# Altium footprint library Manea_ThCAD_PROIECT_PCB1.PcbLib: 15 footprints
Each footprint in its own frame and in the unit in brackets; x right, y up, seen from the top. Pads: shape width x height; smd on the part's side, far side on the other; paste and mask are expansions set on the pad; w line width, h text height; cw(c..) or ccw(c..) is an arc to the next point about the centre after c.
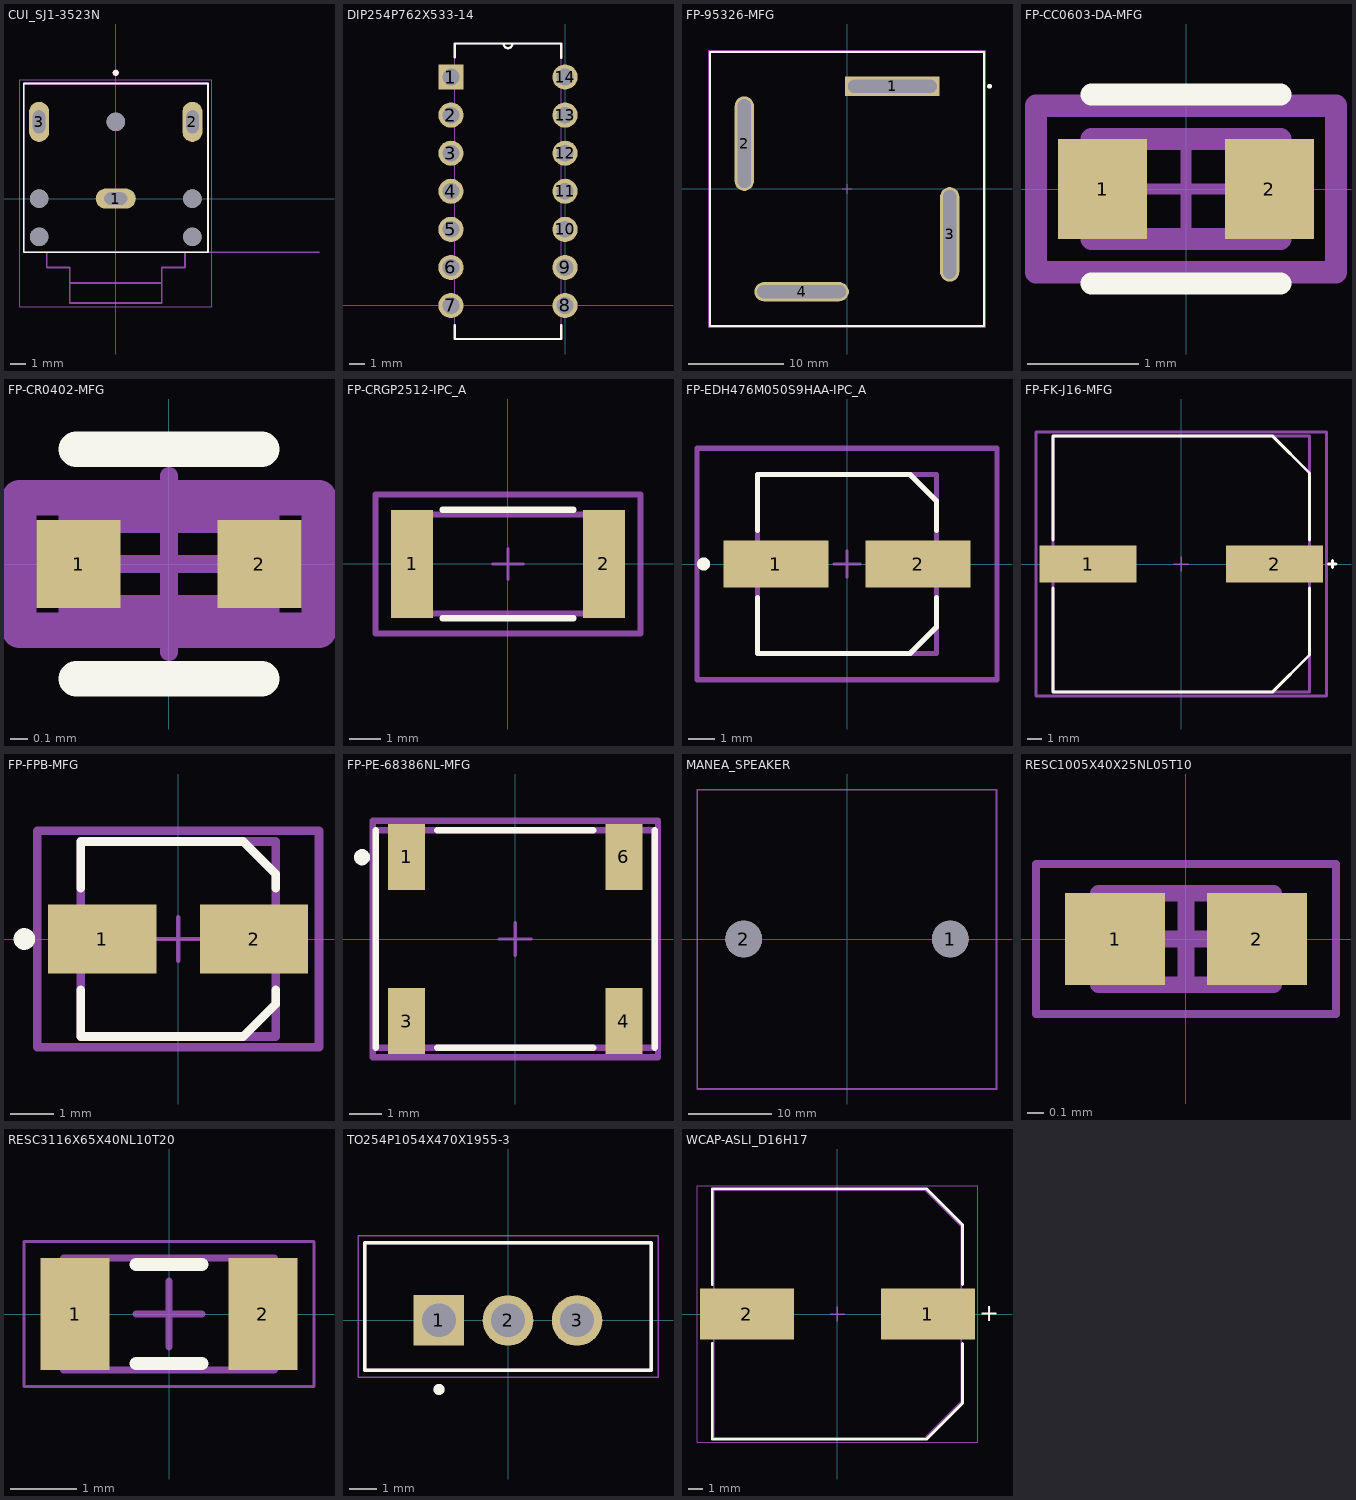
[diagram p0: the footprints below, top view; thin cyan lines are the x and y axes]

## CUI_SJ1-3523N [mm] "Manea - Stereo jack"
height 6.25
pads (8):
  oval 2.616x1.308 hole 0.8 slot 1.5 at 0 deg: 1(0,0)
  oval 1.308x2.616 hole 0.8 slot 1.5 at 90 deg: 2(5,5) 3(-5,5)
  round 1.2 hole 1.2 unplated: ""(-5,-2.5) ""(-5,0) ""(0,5) ""(5,-2.5) ""(5,0)
Top Overlay:
  circle w0.2: c0,8.2 r0.1
  lines w0.127: -6,-3.5 6,-3.5 6,7.5 -6,7.5 -6,-3.5
Top 3D Body:
  circle w0.2: c0,8.2 r0.1
  lines w0.127: 13.25,-3.5 6,-3.5 ; -4.5,-3.5 -4.5,-4.5 -3,-4.5 -3,-5.5 ; -4.5,-3.5 4.5,-3.5 ; -4.5,-3.5 -6,-3.5 -6,7.5 6,7.5 6,-3.5 ; -3,-5.5 3,-5.5 ; -3,-5.5 -3,-6.8 3,-6.8 3,-5.5 ; 3,-5.5 3,-4.5 4.5,-4.5 4.5,-3.5 ; 4.5,-3.5 6,-3.5
  text "PCB EDGE" at 7,-3.25 h0.81
Top Courtyard:
  lines w0.05: -6.25,-7.05 -6.25,7.75 6.25,7.75 6.25,-7.05 -6.25,-7.05
3D body "step_temp.STEP": height 3.01, standoff -5.5, extent -6,-6.807 6,7.493

## DIP254P762X533-14 [mil] "Manea - IC LM1877N"
pads (14):
  rect 66x66 / inner round 66 / far side rect 66x66 hole 44: 1(-300,600)
  round 66 hole 44: 2(-300,500) 3(-300,400) 4(-300,300) 5(-300,200) 6(-300,100) 7(-300,0) 8(0,0) 9(0,100) 10(0,200) 11(0,300) 12(0,400) 13(0,500) 14(0,600)
Top Overlay:
  lines w6: -290,-51 -290,-88 -10,-88 -10,-51 ; -290,652 -290,688 -162,688 ; -10,651 -10,688 -138,688 ; -162,688 ccw(c-150,688) -138,688 ; -162,688 -138,688
Top 3D Body:
  lines w0: -162,688 ccw(c-150,688) -138,688 ; -162,688 -138,688 ; -162,688 -290,688 -290,-88 -10,-88 -10,688 -138,688 ; -322,-22 -322,22 -290,22 -290,-22 -322,-22 ; -322,78 -322,122 -290,122 -290,78 -322,78 ; -322,178 -322,222 -290,222 -290,178 -322,178 ; -322,278 -322,322 -290,322 -290,278 -322,278 ; -322,378 -322,422 -290,422 -290,378 -322,378 ; -322,478 -322,522 -290,522 -290,478 -322,478 ; -322,578 -322,622 -290,622 -290,578 -322,578 ; -10,-22 -10,22 22,22 22,-22 -10,-22 ; -10,78 -10,122 22,122 22,78 -10,78 ; -10,178 -10,222 22,222 22,178 -10,178 ; -10,278 -10,322 22,322 22,278 -10,278 ; -10,378 -10,422 22,422 22,378 -10,378 ; -10,478 -10,522 22,522 22,478 -10,478 ; -10,578 -10,622 22,622 22,578 -10,578
3D body "step_temp.STEP": height 200, standoff -125.2, extent -304.92,-80.04 4.92,680

## FP-95326-MFG [mm] "Manea - Bridge Diode"
pads (4):
  rect 9.9x2 hole 1.4 slot 9.3 at 0 deg paste-2539.97 mask+0: 1(4.75,10.75)
  rrect100% 2x9.9 hole 1.4 slot 9.3 at 90 deg paste-2539.97 mask+0: 2(-10.75,4.75) 3(10.75,-4.75)
  rrect100% 9.9x2 hole 1.4 slot 9.3 at 0 deg paste-2539.97 mask+0: 4(-4.75,-10.75)
Top Overlay:
  circle w0.25: c14.925,10.75 r0.125
  lines w0.2: -14.325,-14.325 14.325,-14.325 14.325,14.325 -14.325,14.325 -14.325,-14.325
Top Assembly:
  lines w0.2: -14.425,-14.425 14.425,-14.425 14.425,14.425 -14.425,14.425 -14.425,-14.425
  text ".Designator" at 0,0.187 h1
Top 3D Body:
  lines w0.2: -14.325,-14.325 14.325,-14.325 14.325,14.325 -14.325,14.325 -14.325,-14.325
Top Courtyard:
  lines w0.2: -14.425,-14.425 14.425,-14.425 14.425,14.425 -14.425,14.425 -14.425,-14.425
Top Component Center:
  lines w0.1: -0.5,0 0.5,0 ; 0,-0.5 0,0.5
3D body "Diode_Vishay_VS-26MB40A_eec.STEP": height 0.25, standoff 0, extent -14.425,-14.425 14.425,14.425

## FP-CC0603-DA-MFG [mm] "Manea - Cap 100nF Ceramic"
pads (2):
  rect 0.8x0.9 smd paste+0 mask+0.102: 1(-0.75,0) 2(0.75,0)
Top Overlay:
  lines w0.2: -0.85,-0.85 0.85,-0.85 ; -0.85,0.85 0.85,0.85
Top Assembly:
  lines w0.2: -1.35,-0.75 1.35,-0.75 1.35,0.75 -1.35,0.75 -1.35,-0.75
  text ".Designator" at 0,0.187 h1
Top 3D Body:
  lines w0.2: -0.85,-0.45 0.85,-0.45 0.85,0.45 -0.85,0.45 -0.85,-0.45
Top Courtyard:
  lines w0.2: -1.35,-0.75 1.35,-0.75 1.35,0.75 -1.35,0.75 -1.35,-0.75
Top Component Center:
  lines w0.1: -0.5,0 0.5,0 ; 0,-0.5 0,0.5
3D body "Cap_YAGEO_CC0603KRX7R9BB271_eec.STEP": height 0.25, standoff 0, extent -1.35,-0.75 1.35,0.75

## FP-CR0402-MFG [mm] "Manea Resis - 2.7Ω (mid - short)"
pads (2):
  rect 0.475x0.5 smd paste+0 mask+0: 1(-0.513,0) 2(0.513,0)
Top Overlay:
  lines w0.2: -0.525,-0.65 0.525,-0.65 ; -0.525,0.65 0.525,0.65
Top Assembly:
  lines w0.2: -0.85,-0.375 -0.85,0.375 0.85,0.375 0.85,-0.375 -0.85,-0.375
  text ".Designator" at 0,0.187 h1
Top 3D Body:
  lines w0.2: -0.525,-0.275 -0.525,0.275 0.525,0.275 0.525,-0.275 -0.525,-0.275
Top Courtyard:
  lines w0.2: -0.85,-0.375 -0.85,0.375 0.85,0.375 0.85,-0.375 -0.85,-0.375
Top Component Center:
  lines w0.1: -0.5,0 0.5,0 ; 0,-0.5 0,0.5
3D body "Res_Bourns_CR0402-FX-1243GLF_eec.STEP": height 0.25, standoff 0, extent -0.85,-0.375 0.85,0.375

## FP-CRGP2512-IPC_A [mm] "Manea Resis - 100kΩ (long)"
pads (2):
  rect 1.35x3.5 smd paste+0 mask+0.102: 1(-3.102,0) 2(3.102,0)
Top Overlay:
  lines w0.2: -2.123,-1.753 2.123,-1.753 ; -2.123,1.753 2.123,1.753
Top Assembly:
  lines w0.2: -4.281,-2.253 4.281,-2.253 4.281,2.253 -4.281,2.253 -4.281,-2.253
  text ".Designator" at 0,0.187 h1
Top 3D Body:
  lines w0.2: -3.175,-1.6 3.175,-1.6 3.175,1.6 -3.175,1.6 -3.175,-1.6
Top Courtyard:
  lines w0.2: -4.281,-2.253 4.281,-2.253 4.281,2.253 -4.281,2.253 -4.281,-2.253
Top Component Center:
  lines w0.1: -0.5,0 0.5,0 ; 0,-0.5 0,0.5
3D body "Res_TE_CRGP2512F47R_eec.STEP": height 0.25, standoff 0, extent -4.281,-2.253 4.281,2.253

## FP-EDH476M050S9HAA-IPC_A [mm] "Manea Cap - 47μF (small)"
pads (2):
  rect 4x1.8 smd paste+0 mask+0.102: 1(-2.7,0) 2(2.7,0)
Top Overlay:
  circle w0.25: c-5.45,0 r0.125
  lines w0.2: -3.4,-1.275 -3.4,-3.4 2.4,-3.4 3.4,-2.4 3.4,-1.275 ; -3.4,1.275 -3.4,3.4 2.4,3.4 3.4,2.4 3.4,1.275
Top Assembly:
  lines w0.2: -5.7,-4.4 -5.7,4.4 5.7,4.4 5.7,-4.4 -5.7,-4.4
  text ".Designator" at 0,0.187 h1
Top 3D Body:
  lines w0.2: -3.4,-3.4 -3.4,3.4 3.4,3.4 3.4,-3.4 -3.4,-3.4
Top Courtyard:
  lines w0.2: -5.7,-4.4 -5.7,4.4 5.7,4.4 5.7,-4.4 -5.7,-4.4
Top Component Center:
  lines w0.1: -0.5,0 0.5,0 ; 0,-0.5 0,0.5
3D body "Cap_KEMET_EDH476M050S9HAA_eec.STEP": height 0.25, standoff 0, extent -5.7,-4.4 5.7,4.4

## FP-FK-J16-MFG [mm] "Manea Cap - 1mF"
pads (2):
  rect 6.5x2.5 smd paste+0 mask+0.102: 1(-6.25,0) 2(6.25,0)
Top Overlay:
  lines w0.2: -8.6,-1.625 -8.6,-8.6 6.1,-8.6 8.6,-6.1 8.6,-1.625 ; -8.6,1.625 -8.6,8.6 6.1,8.6 8.6,6.1 8.6,1.625 ; 9.875,0 10.375,0 ; 10.125,-0.25 10.125,0.25
Top Assembly:
  lines w0.2: -9.75,-8.85 9.75,-8.85 9.75,8.85 -9.75,8.85 -9.75,-8.85
  text ".Designator" at 0,-0.001 h1
Top 3D Body:
  lines w0.2: -8.6,-8.6 8.6,-8.6 8.6,8.6 -8.6,8.6 -8.6,-8.6
Top Courtyard:
  lines w0.2: -9.75,-8.85 9.75,-8.85 9.75,8.85 -9.75,8.85 -9.75,-8.85
Top Component Center:
  lines w0.1: -0.5,0 0.5,0 ; 0,-0.5 0,0.5
3D body "Cap_Panasonic_Electronic_Components_EEV-FK1H102M_eec.STEP": height 0.25, standoff 0, extent -9.75,-8.85 9.75,8.85

## FP-FPB-MFG [mm] "Manea Cap - 10μF"
pads (2):
  rect 2.5x1.6 smd paste+0 mask+0.102: 1(-1.75,0) 2(1.75,0)
Top Overlay:
  circle w0.25: c-3.55,0 r0.125
  lines w0.2: -2.251,-2.251 -2.251,-1.175 ; -2.251,1.175 -2.251,2.251 ; -2.25,-2.25 1.5,-2.25 2.25,-1.5 2.25,-1.175 ; -2.25,2.25 1.5,2.25 2.25,1.5 2.25,1.175
Top Assembly:
  lines w0.2: -3.25,-2.5 3.25,-2.5 3.25,2.5 -3.25,2.5 -3.25,-2.5
  text ".Designator" at 0,0.187 h1
Top 3D Body:
  lines w0.2: -2.25,-2.25 2.25,-2.25 2.25,2.25 -2.25,2.25 -2.25,-2.25
Top Courtyard:
  lines w0.2: -3.25,-2.5 3.25,-2.5 3.25,2.5 -3.25,2.5 -3.25,-2.5
Top Component Center:
  lines w0.1: -0.5,0 0.5,0 ; 0,-0.5 0,0.5
3D body "Cap_Panasonic_EEEFP1C100AR_eec.STEP": height 0.25, standoff 0, extent -3.25,-2.5 3.25,2.5

## FP-PE-68386NL-MFG [mil] "Manea Transformator"
pads (4):
  rect 45x80 smd paste+0 mask+0: 1(-132.5,100) 3(-132.5,-100) 4(132.5,-100) 6(132.5,100)
Top Overlay:
  circle w9.84: c-186.73,99.65 r4.92
  lines w7.87: -169.76,-132.5 -170,-132.5 -170,132.5 -169.76,132.5 ; -95.24,-132.5 95.24,-132.5 ; -95.24,132.5 95.24,132.5 ; 169.76,-132.5 170,-132.5 170,132.5 169.76,132.5
Top Assembly:
  lines w7.87: -173.94,-143.94 -173.94,143.94 173.94,143.94 173.94,-143.94 -173.94,-143.94
  text ".Designator" at 0,7.38 h39.37
Top 3D Body:
  lines w7.87: -170,-132.5 -170,132.5 170,132.5 170,-132.5 -170,-132.5
Top Courtyard:
  lines w7.87: -173.94,-143.94 -173.94,143.94 173.94,143.94 173.94,-143.94 -173.94,-143.94
Top Component Center:
  lines w3.94: -19.68,0 19.68,0 ; 0,-19.68 0,19.68
3D body "Trans_Pulse_Electronics_Corporation_PE-68386NL_eec.STEP": height 10, standoff 0, extent -173.94,-143.94 173.94,143.94

## MANEA_SPEAKER [mm] "36 mm, Round Frame, 2.0 W, 8 Ohm, Neodymium Magnet, Paper Cone, Speaker [CLS0361 - Same Sky]"
pads (2):
  round 4.4 hole 4.4 unplated paste-2539.97 mask+0: 1(12.4,0) 2(-12.4,0)
Mechanical 1:
  lines w0.1: -17.9,-17.9 -17.9,17.9 17.9,17.9 17.9,-17.9 -17.9,-17.9
Top Designator:
  lines w0.1: -18,-18 -18,18 18,18 18,-18 -18,-18
3D body "CLS0361--3DModel-STEP-1.STEP": height 6, standoff 0, extent -18,-18 18,18

## RESC1005X40X25NL05T10 [mm] "Manea - Resistor 1MΩ (mid) Chip Resistor, 2-Leads, Body 1.00x0.50mm, IPC Medium Density"
height 0.4
pads (2):
  rect 0.6x0.55 smd: 1(-0.425,0) 2(0.425,0)
Top 3D Body:
  lines w0.1: -0.525,-0.275 -0.525,0.275 0.525,0.275 0.525,-0.275 -0.525,-0.275
Top Courtyard:
  lines w0.05: -0.9,-0.45 -0.9,0.45 0.9,0.45 0.9,-0.45 -0.9,-0.45
  lines w0.1: -0.275,0 0.275,0 ; 0,-0.275 0,0.275
3D body: height 0.4, standoff 0, extent -0.275,-0.275 0.275,0.275
3D body: height 0.4, standoff 0, extent -0.525,-0.275 -0.275,0.275
3D body: height 0.4, standoff 0, extent 0.275,-0.275 0.525,0.275

## RESC3116X65X40NL10T20 [mm] "Manea - Resistor 1kΩ (mid) Chip Resistor, 2-Leads, Body 3.10x1.60mm, IPC Medium Density"
height 0.65
pads (2):
  rect 1.05x1.7 smd: 1(-1.425,0) 2(1.425,0)
Top Overlay:
  lines w0.2: -0.5,-0.75 0.5,-0.75 ; -0.5,0.75 0.5,0.75
Top 3D Body:
  lines w0.1: -1.6,-0.85 1.6,-0.85 1.6,0.85 -1.6,0.85 -1.6,-0.85
Top Courtyard:
  lines w0.05: -2.2,-1.1 2.2,-1.1 2.2,1.1 -2.2,1.1 -2.2,-1.1
  lines w0.1: -0.5,0 0.5,0 ; 0,-0.5 0,0.5
3D body: height 0.65, standoff 0, extent 1.2,-0.85 1.6,0.85
3D body: height 0.65, standoff 0, extent -1.6,-0.85 -1.2,0.85
3D body: height 0.65, standoff 0, extent -1.2,-0.85 1.2,0.85

## TO254P1054X470X1955-3 [mm] "Manea - Integrated Circuit (LM7812) [ IC1 ]"
pads (3):
  rect 1.86x1.86 / inner round 1.86 / far side rect 1.86x1.86 hole 1.24: 1(-2.54,0)
  round 1.86 hole 1.24: 2(0,0) 3(2.54,0)
Top Overlay:
  circle w0.2: c-2.54,-2.54 r0.1
  lines w0.127: -5.27,-1.84 -5.27,2.86 5.27,2.86 5.27,-1.84 -5.27,-1.84
Top 3D Body:
  circle w0.2: c-2.54,-2.54 r0.1
  lines w0.127: -5.27,-1.84 -5.27,2.86 5.27,2.86 5.27,-1.84 -5.27,-1.84
Top Courtyard:
  lines w0.05: -5.52,-2.09 -5.52,3.11 5.52,3.11 5.52,-2.09 -5.52,-2.09
3D body "step_temp.STEP": height 15.49, standoff -13.84, extent -5.08,-1.905 5.08,2.794

## WCAP-ASLI_D16H17 [mm] "Manea Cap - 2.2mF Aluminium Electrolytic V-Chip SMT Capacitors, 16x17mm"
height 17
pads (2):
  rect 6.5x3.5 smd: 1(6.25,0) 2(-6.25,0)
Top Overlay:
  lines w0.2: -8.65,-2.05 -8.65,-8.65 6.15,-8.65 8.65,-6.15 8.65,-2.05 ; -8.65,2.05 -8.65,8.65 6.15,8.65 8.65,6.15 8.65,2.05
  text "+" at 9.8,-0.5 h1.22
Top Assembly:
  lines w0.1: -8.55,-8.55 6.05,-8.55 8.55,-6.05 8.55,6.05 6.05,8.55 -8.55,8.55 -8.55,-8.55
Top Designator:
  text ".Designator" at -3.647,-0.357 h1
Top 3D Body:
  lines w0.1: -8.55,-8.55 6.05,-8.55 8.55,-6.05 8.55,6.05 6.05,8.55 -8.55,8.55 -8.55,-8.55
Top Courtyard:
  lines w0.05: -9.7,-8.85 -9.7,8.85 9.7,8.85 9.7,-8.85 -9.7,-8.85
Top Component Center:
  lines w0.1: -0.5,0 0.5,0 ; 0,-0.5 0,0.5
3D body "16x17x7_new.stp": height 17, standoff 0, extent -9.15,-8.5 9.15,8.5